# Altium footprint library TDII_PCB_LIB_R00.PcbLib: 21 footprints (part 2 of 2)
Each footprint in its own frame and in the unit in brackets; x right, y up, seen from the top. Pads: shape width x height; smd on the part's side, far side on the other; paste and mask are expansions set on the pad; w line width, h text height; cw(c..) or ccw(c..) is an arc to the next point about the centre after c.
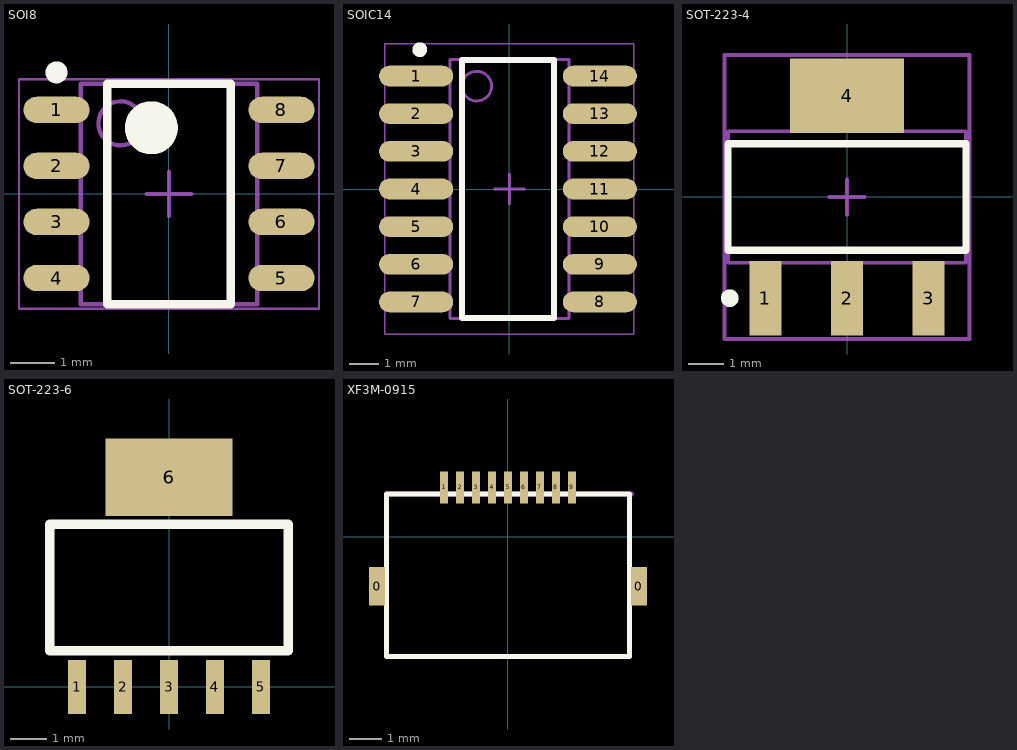
[diagram p1: the footprints below, top view; thin cyan lines are the x and y axes]

## SOI8 [mm]
pads (8):
  oval 1.5x0.6 smd: 1(-2.55,1.905) 2(-2.55,0.635) 3(-2.55,-0.635) 4(-2.55,-1.905) 5(2.55,-1.905) 6(2.55,-0.635) 7(2.55,0.635) 8(2.55,1.905)
Top Overlay:
  circle w0.25: c-2.55,2.755 r0.125
  circle w0.6: c-0.4,1.5 r0.3
  lines w0.2: -1.4,-2.5 -1.4,2.5 1.4,2.5 1.4,-2.5 -1.4,-2.5
Mechanical 13:
  circle w0.1: c-1.1,1.6 r0.5
  lines w0.1: -2,-2.5 -2,2.5 2,2.5 2,-2.5 -2,-2.5
Mechanical 15:
  lines w0.05: -3.4,-2.6 -3.4,2.6 3.4,2.6 3.4,-2.6 -3.4,-2.6
  lines w0.1: -0.5,0 0.5,0 ; 0,-0.5 0,0.5
3D body: height 1.75, standoff 0, extent -3,-2.5 3,2.4

## SOIC14 [mm]
pads (14):
  oval 2.5x0.7 smd: 1(-3.15,3.81) 2(-3.15,2.54) 3(-3.15,1.27) 4(-3.15,0) 5(-3.15,-1.27) 6(-3.15,-2.54) 7(-3.15,-3.81) 8(3.05,-3.81) 9(3.05,-2.54) 10(3.05,-1.27) 11(3.05,0) 12(3.05,1.27) 13(3.05,2.54) 14(3.05,3.81)
Top Overlay:
  circle w0.25: c-3.025,4.7 r0.125
  lines w0.2: -1.6,-4.35 -1.6,4.35 1.5,4.35 1.5,-4.35 -1.6,-4.35
Mechanical 13:
  circle w0.1: c-1.105,3.47 r0.5
  lines w0.1: -2.005,-4.37 -2.005,4.37 2.005,4.37 2.005,-4.37 -2.005,-4.37
Mechanical 15:
  lines w0.05: -4.2,-4.9 -4.2,4.9 4.2,4.9 4.2,-4.9 -4.2,-4.9
  lines w0.1: -0.5,0 0.5,0 ; 0,-0.5 0,0.5
3D body: height 1.75, standoff 0, extent -3,-4.35 3,4.35

## SOT-223-4 [mm]
pads (4):
  rect 0.9x2.1 smd: 1(-2.3,-2.85) 2(0,-2.85) 3(2.3,-2.85)
  rect 3.2x2.1 smd: 4(0,2.85)
Top Overlay:
  circle w0.25: c-3.3,-2.85 r0.125
  lines w0.2: -3.35,-1.5 -3.35,1.5 3.35,1.5 3.35,-1.5 -3.35,-1.5
Mechanical 13:
  lines w0.1: -3.35,-1.85 -3.35,1.85 3.35,1.85 3.35,-1.85 -3.35,-1.85
Mechanical 15:
  lines w0.1: -0.5,0 0.5,0 ; 0,-0.5 0,0.5 ; -3.45,-4 -3.45,4 3.45,4 3.45,-4 -3.45,-4
3D body: height 1.7, standoff 0, extent -3.25,-3.5 3.25,3.5

## SOT-223-6 [mm]
pads (6):
  rect 0.5x1.5 smd: 1(-2.54,0) 2(-1.27,0) 3(0,0) 4(1.27,0) 5(2.54,0)
  rect 3.5x2.15 smd: 6(0,5.8)
Top Overlay:
  lines w0.254: -3.3,1 -3.3,4.5 3.3,4.5 3.3,1 -3.3,1

## XF3M-0915 [mm]
pads (11):
  rect 0.5x1.2 smd: 0(-4.1,-1.55) 0(4.1,-1.55)
  rect 0.254x1 smd: 1(-2,1.55) 2(-1.5,1.55) 3(-1,1.55) 4(-0.5,1.55) 5(0,1.55) 6(0.5,1.55) 7(1,1.55) 8(1.5,1.55) 9(2,1.55)
Top Overlay:
  lines w0.156: -3.8,-3.75 -3.8,1.35 3.8,1.35 3.8,-3.75 -3.8,-3.75
Mechanical 1:
  lines w0.156: -0.062,1.35 -3.8,1.35 -3.8,-3.75 3.8,-3.75 3.8,1.35 ; 0,1.35 3.863,1.35